# EAGLE library part XC2C64A (library XC2C64A)
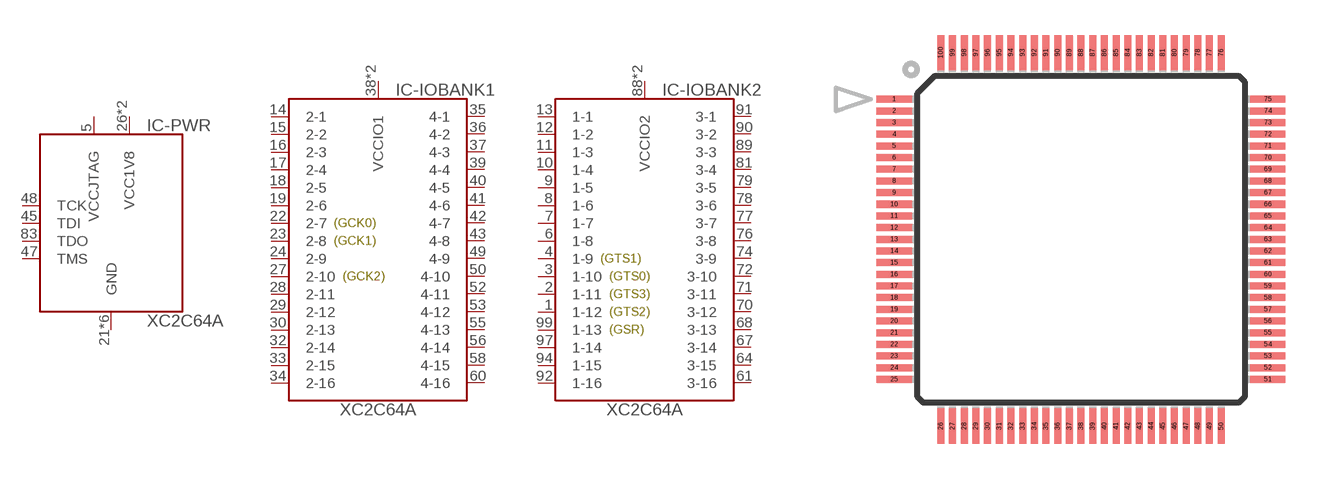
[diagram p0: symbol with the pads of TQFP100; footprint TQFP100]

Designator prefix IC; gates -PWR=XC2C64A-PWRJTAG -IOBANK1=X2C64A-IO1 -IOBANK2=X2C64A-IO2

## XC2C64A-5VQG100C (MARK: XC2C64A-5VQG100C; MF: XILINX; MPN: XC2C64A-5VQG100C), XC2C64A-7VQG100C (MARK: XC2C64A-7VQG100C; MF: XILINX; MPN: XC2C64A-7VQG100C)  [TQFP100]
1  -IOBANK2:1-12
2  -IOBANK2:1-11
3  -IOBANK2:1-10
4  -IOBANK2:1-9
5  -PWR:VCCJTAG  in
6  -IOBANK2:1-8
7  -IOBANK2:1-7
8  -IOBANK2:1-6
9  -IOBANK2:1-5
10  -IOBANK2:1-4
11  -IOBANK2:1-3
12  -IOBANK2:1-2
13  -IOBANK2:1-1
14  -IOBANK1:2-1
15  -IOBANK1:2-2
16  -IOBANK1:2-3
17  -IOBANK1:2-4
18  -IOBANK1:2-5
19  -IOBANK1:2-6
21  -PWR:GND  pwr
22  -IOBANK1:2-7
23  -IOBANK1:2-8
24  -IOBANK1:2-9
26  -PWR:VCC1V8  in
27  -IOBANK1:2-10
28  -IOBANK1:2-11
29  -IOBANK1:2-12
30  -IOBANK1:2-13
31  -PWR:GND  pwr
32  -IOBANK1:2-14
33  -IOBANK1:2-15
34  -IOBANK1:2-16
35  -IOBANK1:4-1
36  -IOBANK1:4-2
37  -IOBANK1:4-3
38  -IOBANK1:VCCIO1  in
39  -IOBANK1:4-4
40  -IOBANK1:4-5
41  -IOBANK1:4-6
42  -IOBANK1:4-7
43  -IOBANK1:4-8
45  -PWR:TDI  in
47  -PWR:TMS  in
48  -PWR:TCK  in
49  -IOBANK1:4-9
50  -IOBANK1:4-10
51  -IOBANK1:VCCIO1  in
52  -IOBANK1:4-11
53  -IOBANK1:4-12
55  -IOBANK1:4-13
56  -IOBANK1:4-14
57  -PWR:VCC1V8  in
58  -IOBANK1:4-15
60  -IOBANK1:4-16
61  -IOBANK2:3-16
62  -PWR:GND  pwr
64  -IOBANK2:3-15
67  -IOBANK2:3-14
68  -IOBANK2:3-13
69  -PWR:GND  pwr
70  -IOBANK2:3-12
71  -IOBANK2:3-11
72  -IOBANK2:3-10
74  -IOBANK2:3-9
76  -IOBANK2:3-8
77  -IOBANK2:3-7
78  -IOBANK2:3-6
79  -IOBANK2:3-5
81  -IOBANK2:3-4
83  -PWR:TDO
84  -PWR:GND  pwr
88  -IOBANK2:VCCIO2  in
89  -IOBANK2:3-3
90  -IOBANK2:3-2
91  -IOBANK2:3-1
92  -IOBANK2:1-16
94  -IOBANK2:1-15
97  -IOBANK2:1-14
98  -IOBANK2:VCCIO2  in
99  -IOBANK2:1-13
100  -PWR:GND  pwr

## XC2C64A-5VQG100I (MARK: XC2C64A-5VQG100I; MF: XILINX; MPN: XC2C64A-5VQG100I), XC2C64A-7VQG100I (MARK: XC2C64A-7VQG100I; MF: XILINX; MPN: XC2C64A-7VQG100I)  [TQFP100]
Pads as for TQFP100

## Footprint TQFP100 (pad centres in mm)
100-lead Thin Quad Flat Pack Package Outline
smd 1.5 x 0.3: 1 -8,6; 2 -8,5.5; 3 -8,5; 4 -8,4.5; 5 -8,4; 6 -8,3.5; 7 -8,3; 8 -8,2.5; 9 -8,2; 10 -8,1.5; 11 -8,1; 12 -8,0.5; 13 -8,0; 14 -8,-0.5; 15 -8,-1; 16 -8,-1.5; 17 -8,-2; 18 -8,-2.5; 19 -8,-3; 20 -8,-3.5; 21 -8,-4; 22 -8,-4.5; 23 -8,-5; 24 -8,-5.5; 25 -8,-6; 51 8,-6; 52 8,-5.5; 53 8,-5; 54 8,-4.5; 55 8,-4; 56 8,-3.5; 57 8,-3; 58 8,-2.5; 59 8,-2; 60 8,-1.5; 61 8,-1; 62 8,-0.5; 63 8,0; 64 8,0.5; 65 8,1; 66 8,1.5; 67 8,2; 68 8,2.5; 69 8,3; 70 8,3.5; 71 8,4; 72 8,4.5; 73 8,5; 74 8,5.5; 75 8,6
smd 0.3 x 1.5: 26 -6,-8; 27 -5.5,-8; 28 -5,-8; 29 -4.5,-8; 30 -4,-8; 31 -3.5,-8; 32 -3,-8; 33 -2.5,-8; 34 -2,-8; 35 -1.5,-8; 36 -1,-8; 37 -0.5,-8; 38 0,-8; 39 0.5,-8; 40 1,-8; 41 1.5,-8; 42 2,-8; 43 2.5,-8; 44 3,-8; 45 3.5,-8; 46 4,-8; 47 4.5,-8; 48 5,-8; 49 5.5,-8; 50 6,-8; 76 6,8; 77 5.5,8; 78 5,8; 79 4.5,8; 80 4,8; 81 3.5,8; 82 3,8; 83 2.5,8; 84 2,8; 85 1.5,8; 86 1,8; 87 0.5,8; 88 0,8; 89 -0.5,8; 90 -1,8; 91 -1.5,8; 92 -2,8; 93 -2.5,8; 94 -3,8; 95 -3.5,8; 96 -4,8; 97 -4.5,8; 98 -5,8; 99 -5.5,8; 100 -6,8